# Altium footprint library FootPrintLib_6.PcbLib: 588 footprints (part 27 of 37)
Each footprint in its own frame and in the unit in brackets; x right, y up, seen from the top. Pads: shape width x height; smd on the part's side, far side on the other; paste and mask are expansions set on the pad; w line width, h text height; cw(c..) or ccw(c..) is an arc to the next point about the centre after c.
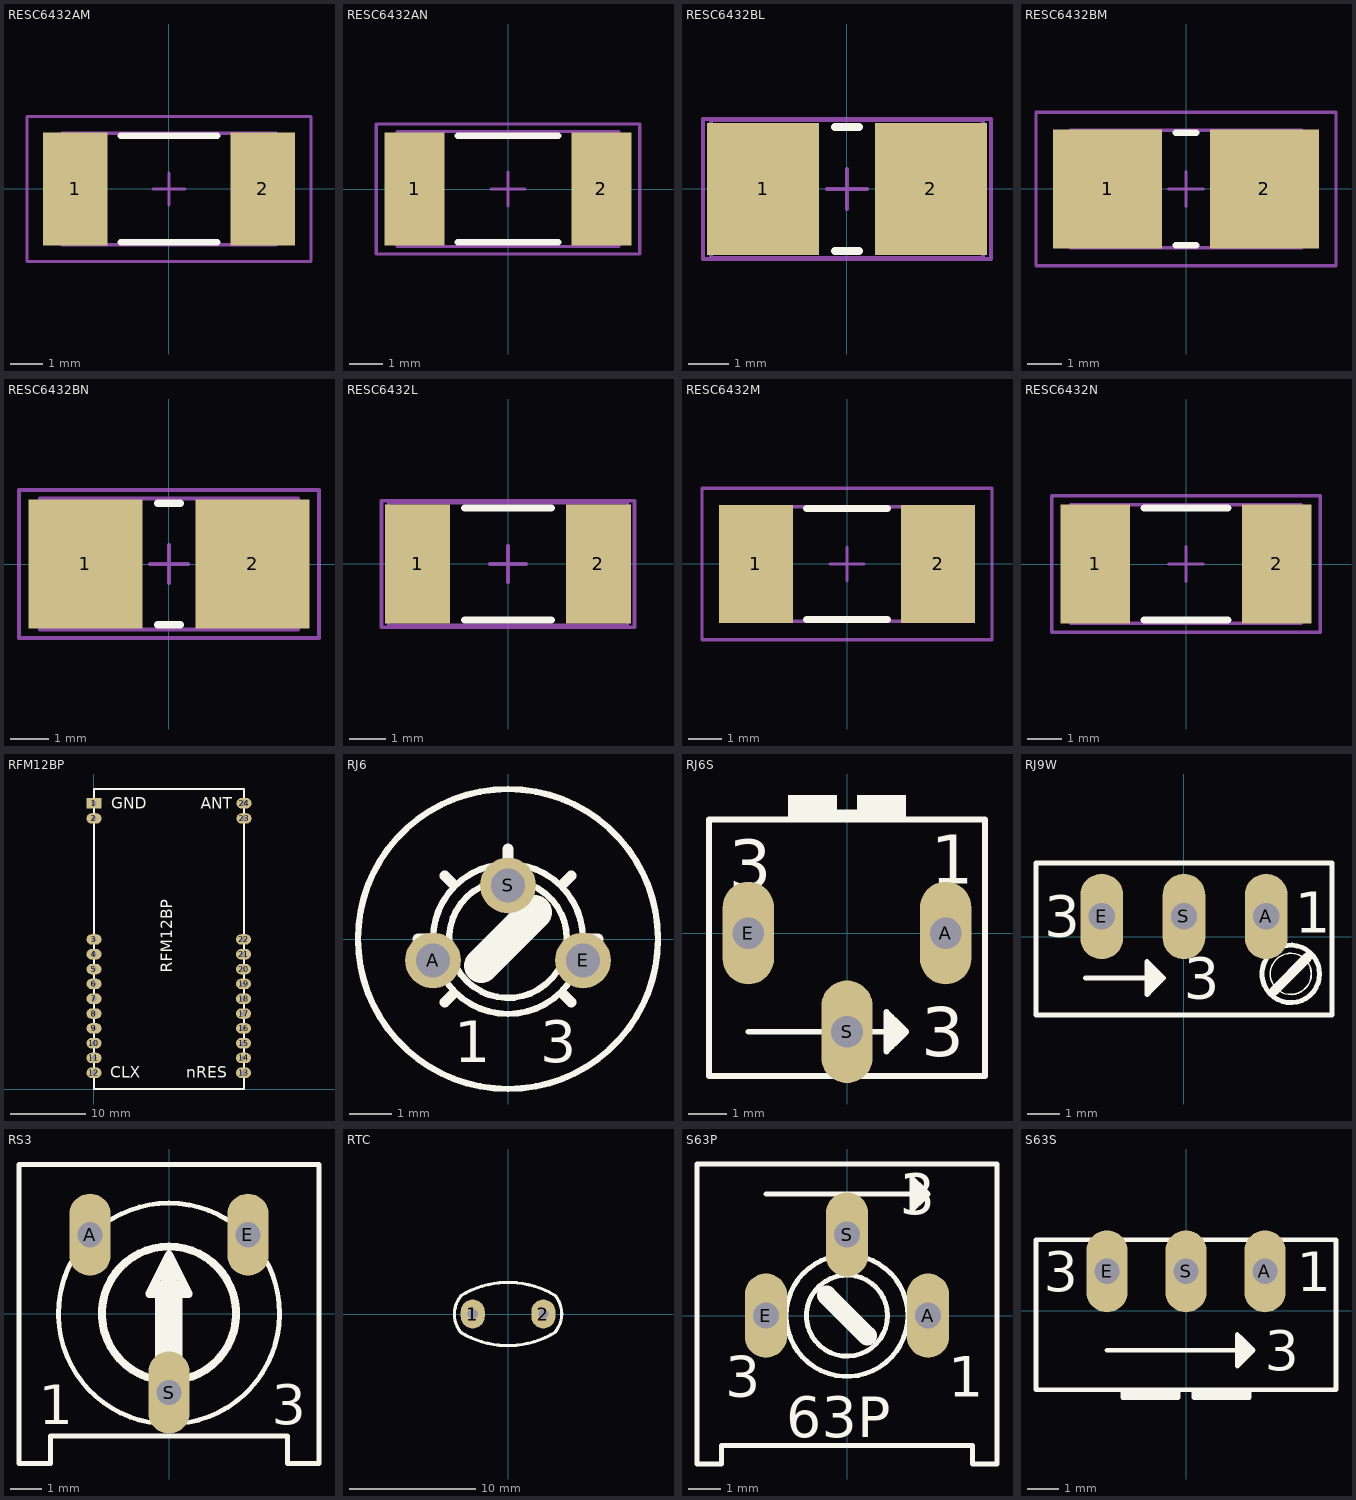
[diagram p26: the footprints below, top view; thin cyan lines are the x and y axes]

## RESC6432AM [mm] "Chip Resistor, Body 6.4x3.2mm, IPC Low Density"
height 1.1
pads (2):
  rect 2x3.5 smd: 1(-2.9,0) 2(2.9,0)
Top Overlay:
  lines w0.2: -1.5,-1.65 1.5,-1.65 ; -1.5,1.65 1.5,1.65
Mechanical 13:
  lines w0.1: -3.325,-1.725 -3.325,1.725 3.325,1.725 3.325,-1.725 -3.325,-1.725
Mechanical 15:
  lines w0.1: -0.5,0 0.5,0 ; 0,-0.5 0,0.5 ; -4.4,-2.25 -4.4,2.25 4.4,2.25 4.4,-2.25 -4.4,-2.25

## RESC6432AN [mm] "Chip Resistor, Body 6.4x3.2mm, IPC Medium Density"
height 1.1
pads (2):
  rect 1.8x3.4 smd: 1(-2.8,0) 2(2.8,0)
Top Overlay:
  lines w0.2: -1.5,-1.6 1.5,-1.6 ; -1.5,1.6 1.5,1.6
Mechanical 13:
  lines w0.1: -3.325,-1.725 -3.325,1.725 3.325,1.725 3.325,-1.725 -3.325,-1.725
Mechanical 15:
  lines w0.1: -0.5,0 0.5,0 ; 0,-0.5 0,0.5 ; -3.95,-1.95 -3.95,1.95 3.95,1.95 3.95,-1.95 -3.95,-1.95

## RESC6432BL [mm] "Chip Resistor, Body 6.4x3.2mm, IPC High Density"
height 1.1
pads (2):
  rect 2.8x3.3 smd: 1(-2.1,0) 2(2.1,0)
Top Overlay:
  lines w0.2: -0.3,-1.55 0.3,-1.55 ; -0.3,1.55 0.3,1.55
Mechanical 13:
  lines w0.1: -3.4,-1.725 3.4,-1.725 3.4,1.725 -3.4,1.725 -3.4,-1.725
Mechanical 15:
  lines w0.1: -0.5,0 0.5,0 ; 0,-0.5 0,0.5 ; -3.6,-1.75 3.6,-1.75 3.6,1.75 -3.6,1.75 -3.6,-1.75

## RESC6432BM [mm] "Chip Resistor, Body 6.4x3.2mm, IPC Low Density"
height 1.1
pads (2):
  rect 3.2x3.5 smd: 1(-2.3,0) 2(2.3,0)
Top Overlay:
  lines w0.2: -0.3,-1.65 0.3,-1.65 ; -0.3,1.65 0.3,1.65
Mechanical 13:
  lines w0.1: -3.4,-1.725 3.4,-1.725 3.4,1.725 -3.4,1.725 -3.4,-1.725
Mechanical 15:
  lines w0.1: -0.5,0 0.5,0 ; 0,-0.5 0,0.5 ; -4.4,-2.25 4.4,-2.25 4.4,2.25 -4.4,2.25 -4.4,-2.25

## RESC6432BN [mm] "Chip Resistor, Body 6.4x3.2mm, IPC Medium Density"
height 1.1
pads (2):
  rect 3x3.4 smd: 1(-2.2,0) 2(2.2,0)
Top Overlay:
  lines w0.2: -0.3,-1.6 0.3,-1.6 ; -0.3,1.6 0.3,1.6
Mechanical 13:
  lines w0.1: -3.4,-1.725 -3.4,1.725 3.4,1.725 3.4,-1.725 -3.4,-1.725
Mechanical 15:
  lines w0.1: -0.5,0 0.5,0 ; 0,-0.5 0,0.5 ; -3.95,-1.95 -3.95,1.95 3.95,1.95 3.95,-1.95 -3.95,-1.95

## RESC6432L [mm] "Chip Resistor, Body 6.4x3.2mm, IPC High Density"
height 1.2
pads (2):
  rect 1.8x3.3 smd: 1(-2.5,0) 2(2.5,0)
Top Overlay:
  lines w0.2: -1.2,-1.55 1.2,-1.55 ; -1.2,1.55 1.2,1.55
Mechanical 13:
  lines w0.1: -3.3,-1.7 -3.3,1.7 3.3,1.7 3.3,-1.7 -3.3,-1.7
Mechanical 15:
  lines w0.1: -0.5,0 0.5,0 ; 0,-0.5 0,0.5 ; -3.5,-1.75 -3.5,1.75 3.5,1.75 3.5,-1.75 -3.5,-1.75

## RESC6432M [mm] "Chip Resistor, Body 6.4x3.2mm, IPC Low Density"
height 1.2
pads (2):
  rect 2.2x3.5 smd: 1(-2.7,0) 2(2.7,0)
Top Overlay:
  lines w0.2: -1.2,-1.65 1.2,-1.65 ; -1.2,1.65 1.2,1.65
Mechanical 13:
  lines w0.1: -3.3,-1.7 3.3,-1.7 3.3,1.7 -3.3,1.7 -3.3,-1.7
Mechanical 15:
  lines w0.1: -0.5,0 0.5,0 ; 0,-0.5 0,0.5 ; -4.3,-2.25 4.3,-2.25 4.3,2.25 -4.3,2.25 -4.3,-2.25

## RESC6432N [mm] "Chip Resistor, Body 6.4x3.2mm, IPC Medium Density"
height 1.2
pads (2):
  rect 2x3.4 smd: 1(-2.6,0) 2(2.6,0)
Top Overlay:
  lines w0.2: -1.2,-1.6 1.2,-1.6 ; -1.2,1.6 1.2,1.6
Mechanical 13:
  lines w0.1: -3.3,-1.7 -3.3,1.7 3.3,1.7 3.3,-1.7 -3.3,-1.7
Mechanical 15:
  lines w0.1: -0.5,0 0.5,0 ; 0,-0.5 0,0.5 ; -3.85,-1.95 -3.85,1.95 3.85,1.95 3.85,-1.95 -3.85,-1.95

## RFM12BP [mm]
pads (24):
  rect 2x1.4 hole 0.7: 1(0,38.1)
  oval 2x1.4 hole 0.7: 2(0,36.068) 3(0,19.939) 4(0,17.963) 5(0,15.988) 6(0,14.012) 7(0,12.037) 8(0,10.061) 9(0,8.086) 10(0,6.11) 11(0,4.135) 12(0,2.159) 13(19.939,2.159) 14(19.939,4.135) 15(19.939,6.11) 16(19.939,8.086) 17(19.939,10.061) 18(19.939,12.037) 19(19.939,14.012) 20(19.939,15.988) 21(19.939,17.963) 22(19.939,19.939) 23(20,36.068) 24(20,38.1)
Top Overlay:
  lines w0.254: 0,0 0,40 20,40 20,0 0,0
  text "CLX" at 2.159,1.524 h1.52
  text "nRES" at 12.319,1.524 h1.52
  text "ANT" at 14.224,37.338 h1.52
  text "GND" at 2.286,37.338 h1.52
  text "RFM12BP" at 10.414,15.494 h1.52

## RJ6 [mil]
pads (3):
  round 52 hole 32: A(-70,-20) E(70,-20) S(0,50)
Top Overlay:
  circle w6: c0,0 r70
  circle w6: c0,0 r140
  circle w6: c0,0 r55
  lines w10: -84,0 -74,0 ; -59,-59 -52,-52 ; -59,59 -52,52 ; 0,74 0,84 ; 52,-52 59,-59 ; 52,52 59,59 ; 74,0 84,0
  lines w32: -25,-25 25,25
  text "1" at -50,-115 h39
  text "3" at 30,-115 h39

## RJ6S [mil]
pads (3):
  oval 52x104 hole 32: A(100,0) E(-100,0) S(0,-100)
Top Overlay:
  rectangle: -10,115 10,125
  rectangle: 10,115 60,140
  rectangle: -60,115 -10,140
  lines w6: -100,-100 45,-100 ; 45,-115 40,-120 40,-80 45,-85 ; 45,-115 45,-100 ; 45,-115 50,-110 ; 45,-100 45,-85 ; 45,-100 60,-100 ; 45,-85 50,-90 ; 50,-110 55,-105 ; 50,-110 50,-90 ; 50,-90 55,-95 ; 55,-105 55,-95 ; 55,-105 60,-100 ; 55,-95 60,-100 ; -140,-145 140,-145 140,115 -140,115 -140,-145
  text "3" at 75,-125 h50
  text "1" at 85,50 h50
  text "3" at -120,45 h50

## RJ9W [mil]
pads (3):
  oval 52x104 hole 32: A(100,25) E(-100,25) S(0,25)
Top Overlay:
  circle w2: c130,-45 r25
  circle w6: c130,-45 r35
  lines w6: -120,-50 -40,-50 ; -40,-65 -45,-70 -45,-30 -40,-35 ; -40,-65 -40,-50 ; -40,-65 -35,-60 ; -40,-50 -40,-35 ; -40,-50 -25,-50 ; -40,-35 -35,-40 ; -35,-60 -30,-55 ; -35,-60 -35,-40 ; -35,-40 -30,-45 ; -30,-55 -30,-45 ; -30,-55 -25,-50 ; -30,-45 -25,-50 ; -180,-95 -180,90 180,90 180,-95 -180,-95
  lines w12: 110,-65 150,-25
  text "3" at 0,-75 h50
  text "3" at -170,0 h50
  text "1" at 135,5 h50

## RS3 [mil]
pads (3):
  oval 52x104 hole 32: A(-100,100) E(100,100) S(0,-100)
Top Overlay:
  lines w6: -140,0 cw(c0,0) -66.68,123.1 ; -121.56,69.46 ccw(c0,0) 0,-140 ccw(c0,0) 120.05,72.03 ; -72.03,120.05 cw(c0.01,0) 0,140 cw(c0,0) 73,119.46 ; 62.61,125.22 cw(c0,0) 140,0 ; -190,-190 -190,189 190,189 190,-190 150,-190 150,-155 -150,-155 -150,-190 -190,-190
  lines w10: -35.62,-77.18 ccw(c0,0) 0,-85 ccw(c0,0) 38.01,-76.03 ; -29.85,-79.59 cw(c0,0) 0,85 cw(c0,0) 29.85,-79.59 ; -15,40 -15,25 ; -10,25 -13,25 ; 0,-60 -5,-60 -5,60 5,60 5,-60 ; 10,25 12,25 ; 15,40 15,25 ; -15,25 -25,25 0,75 25,25 15,25 ; -15,25 -13,25 ; -13,25 -13,-62 12,-62 12,25 ; 12,25 15,25
  text "1" at -165,-140 h50
  text "3" at 130,-140 h50

## RTC [mil]
pads (2):
  oval 75x90 hole 31.5: 1(-110,0) 2(110,0)
Top Overlay:
  lines w10: -146.26,57.09 ccw(c-76.75,-0.6) -146.86,-57.57 ccw(c-0.59,184.52) 145.67,-57.57 ; -145.91,57.68 cw(c0.36,-184.41) 146.92,57.5 cw(c76.75,0.6) 146.26,-57.09

## S63P [mil]
pads (3):
  oval 52x104 hole 32: A(100,0) E(-100,0) S(0,100)
Top Overlay:
  circle w6: c0,0 r50
  circle w6: c0,0 r75
  lines w6: -100,150 85,150 ; 85,135 90,140 ; 85,135 85,150 ; 85,135 80,130 80,170 85,165 ; 85,150 100,150 ; 85,150 85,165 ; 85,165 90,160 ; 90,140 90,160 ; 90,140 95,145 ; 90,160 95,155 ; 95,145 100,150 ; 95,145 95,155 ; 95,155 100,150 ; -185,-183 -185,187 185,187 185,-183 155,-183 155,-160 -155,-160 -155,-183 -185,-183
  lines w24: -25,25 25,-25
  text "63P" at -75,-150 h50
  text "1" at 125,-100 h50
  text "3" at -150,-100 h50
  text "3" at 65,125 h50

## S63S [mil]
pads (3):
  oval 52x104 hole 32: A(100,50) E(-100,50) S(0,50)
Top Overlay:
  lines w6: -100,-50 70,-50 ; -80,-105 -10,-105 ; -80,-105 -80,-110 -10,-110 -10,-105 ; -80,-105 -80,-100 ; -80,-100 -10,-100 ; -80,-100 -190,-100 -190,90 190,90 190,-100 80,-100 ; -10,-105 -10,-100 ; -10,-100 10,-100 ; 10,-105 10,-100 ; 10,-105 10,-110 80,-110 80,-105 ; 10,-105 80,-105 ; 10,-100 80,-100 ; 70,-65 65,-70 65,-30 70,-35 ; 70,-65 70,-50 ; 70,-65 75,-60 ; 70,-50 70,-35 ; 70,-50 85,-50 ; 70,-35 75,-40 ; 75,-60 80,-55 ; 75,-60 75,-40 ; 75,-40 80,-45 ; 80,-105 80,-100 ; 80,-55 80,-45 ; 80,-55 85,-50 ; 80,-45 85,-50
  text "3" at 100,-75 h50
  text "1" at 140,25 h50
  text "3" at -180,25 h50